# Altium footprint library eyes_hvac_v1_pcb.PcbLib: 21 footprints (part 1 of 2)
Each footprint in its own frame and in the unit in brackets; x right, y up, seen from the top. Pads: shape width x height; smd on the part's side, far side on the other; paste and mask are expansions set on the pad; w line width, h text height; cw(c..) or ccw(c..) is an arc to the next point about the centre after c.
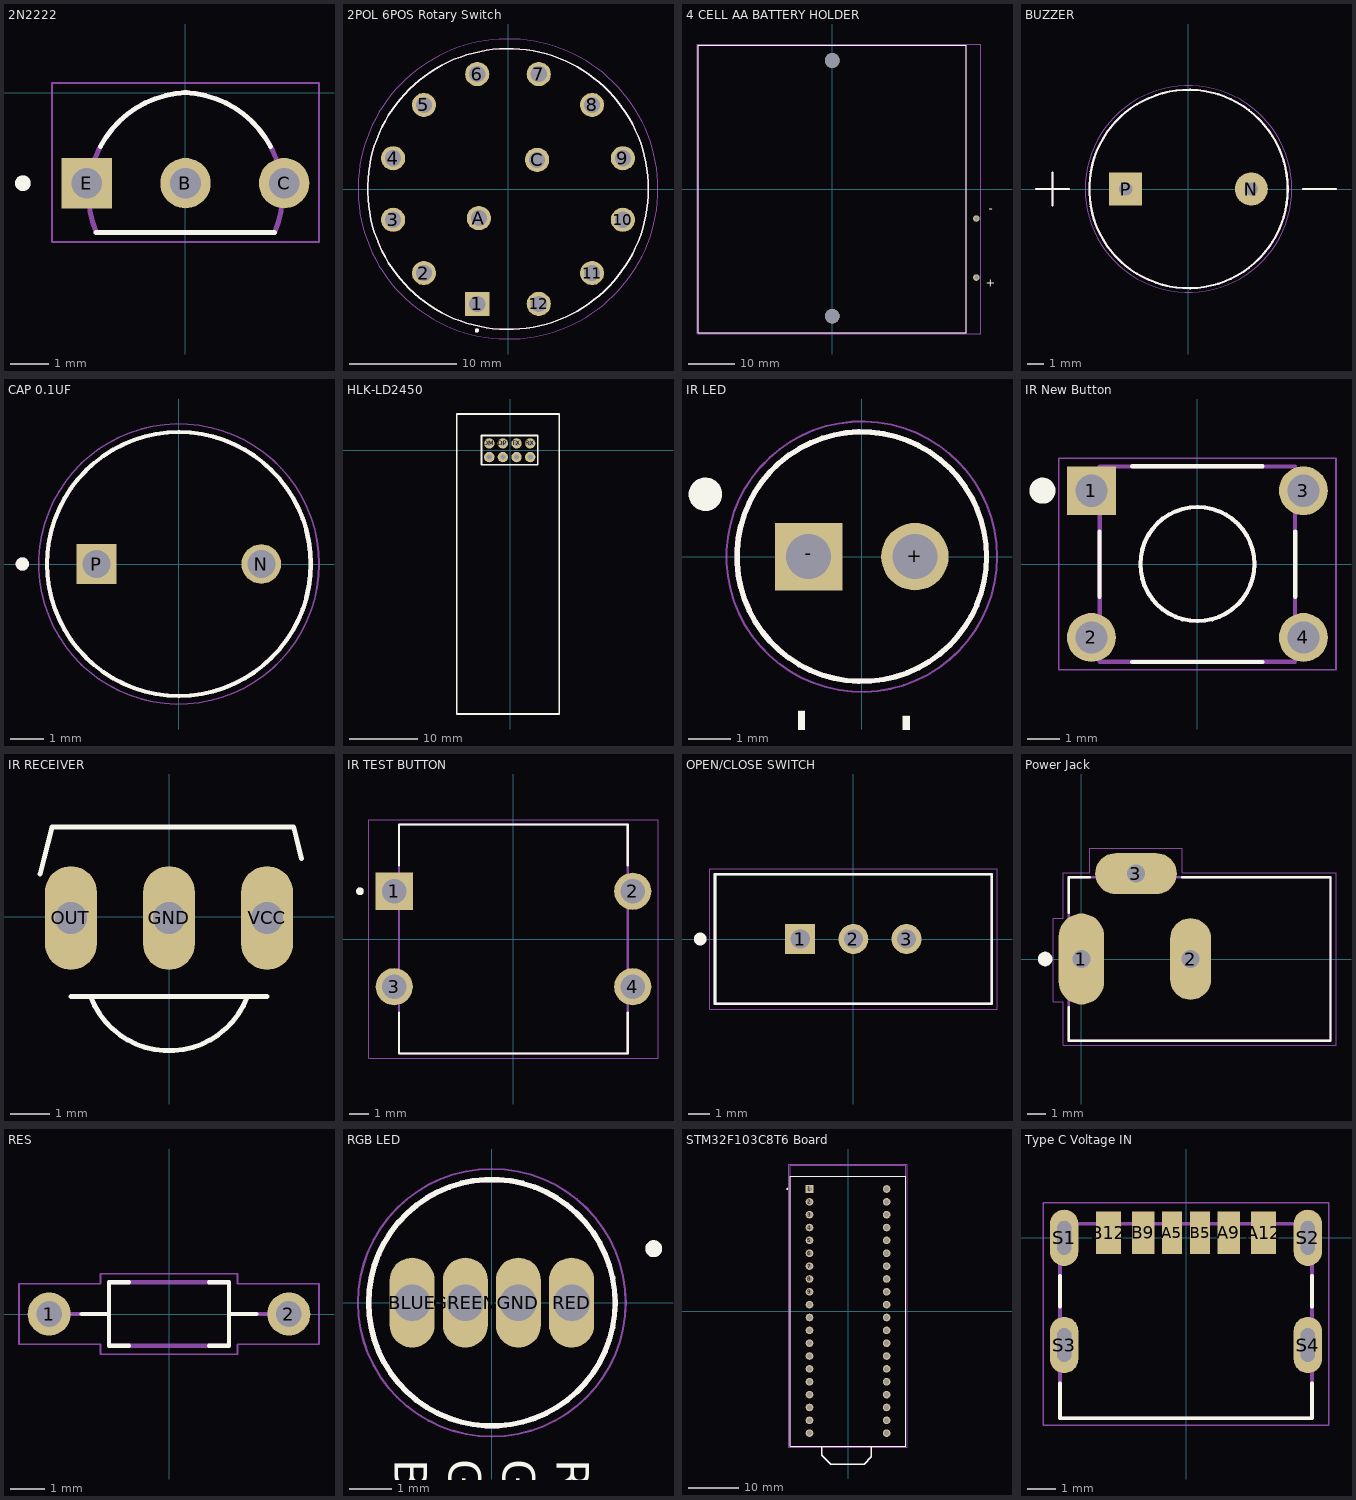
[diagram p0: the footprints below, top view; thin cyan lines are the x and y axes]

## 2N2222 [mm]
height 7.5
pads (3):
  round 1.298 hole 0.79: B(0,-2.33) C(2.54,-2.33)
  rect 1.298x1.298 / inner round 1.298 / far side rect 1.298x1.298 hole 0.79: E(-2.54,-2.33)
Top Overlay:
  circle w0.2: c-4.189,-2.33 r0.1
  lines w0.127: -2.3,-3.6 2.3,-3.6 ; -2.19,-1.381 cw(c0.112,-2.605) 0.021,0.001 ; -0.021,0.001 cw(c-0.112,-2.605) 2.19,-1.381
Mechanical 13:
  circle w0.2: c-4.189,-2.33 r0.1
  lines w0.127: -2.307,-3.582 cw(c0.11,-2.605) 0.019,0.001 ; -2.3,-3.6 2.3,-3.6 ; -0.019,0.001 cw(c-0.11,-2.605) 2.307,-3.582
Mechanical 15:
  lines w0.05: -3.439,-3.85 3.439,-3.85 3.439,0.252 -3.439,0.252 -3.439,-3.85
3D body "step_temp.STEP": height 7.76, standoff -9.5, extent -2.74,-3.869 2.74,0.621

## 2POL 6POS Rotary Switch [mm]
height 52.5
pads (14):
  rect 2.25x2.25 hole 1.5: 1(-2.873,-10.722)
  round 2.25 hole 1.5: 2(-7.849,-7.849) 3(-10.722,-2.873) 4(-10.722,2.873) 5(-7.849,7.849) 6(-2.873,10.722) 7(2.873,10.722) 8(7.849,7.849) 9(10.722,2.873) 10(10.722,-2.873) 11(7.849,-7.849) 12(2.873,-10.722) A(-2.722,-2.722) C(2.722,2.722)
Top Overlay:
  circle w0.2: c-2.9,-13.2 r0.1
  circle w0.127: c0,0 r13.1
Mechanical 13:
  circle w0.2: c-2.9,-13.2 r0.1
  circle w0.127: c0,0 r13.1
Mechanical 15:
  circle w0.05: c0,0 r14
3D body "2T 6P Rotary Switch.STEP": height 51.77, standoff -3.83, extent -13.033,-12.994 12.954,12.994

## 4 CELL AA BATTERY HOLDER [mm]
pads (4):
  round 1.398 hole 0.89: NEG(31,-6.35) POS(31,-19.05)
  round 3.15 hole 3.15 unplated: ""(0,-27.35) ""(0,27.65)
Top Overlay:
  lines w0.127: -28.85,-30.9 28.85,-30.9 28.85,30.9 -28.85,30.9 -28.85,-30.9
  text "+" at 33.025,-20.99 h1.78
  text "-" at 33.66,-5.045 h1.78
Mechanical 13:
  lines w0.127: -28.85,-30.9 -28.85,30.9 28.85,30.9 28.85,-30.9 -28.85,-30.9
  text "-" at 33.66,-5.045 h1.78
  text "+" at 33.025,-20.99 h1.78
Mechanical 15:
  lines w0.05: -29.1,-31.15 31.95,-31.15 31.95,31.15 -29.1,31.15 -29.1,-31.15
3D body "BC4AAB--3DModel-STEP-1.STEP": height 15.5, standoff 0, extent -28.4,-30.522 28.4,30.778

## BUZZER [mm]
height 9.7
pads (2):
  round 2 hole 0.8: N(3.8,0)
  rect 2x2 / inner round 2 / far side rect 2x2 hole 0.8: P(-3.8,0)
Top Overlay:
  circle w0.127: c0,0 r6
  lines w0.127: -9.22,0 -7.22,0 ; -8.22,-1 -8.22,1 ; 6.92,0 8.92,0
Mechanical 13:
  circle w0.127: c0,0 r6
  lines w0.127: -9.22,0 -7.22,0 ; -8.22,-1 -8.22,1 ; 6.92,0 8.92,0
Mechanical 15:
  circle w0.05: c0,0 r6.25
3D body "buzzer.stp": height 9.5, standoff -5.5, extent -6,-5.999 5.997,6

## CAP 0.1UF [mm]
pads (2):
  round 1.2 hole 0.85: N(2.5,0)
  rect 1.2x1.2 hole 0.85: P(-2.5,0)
Top Overlay:
  circle w0.2: c-4.75,0 r0.1
  circle w0.127: c0,0 r4
Mechanical 13:
  circle w0.2: c-4.75,0 r0.1
  circle w0.127: c0,0 r4
Mechanical 15:
  circle w0.05: c0,0 r4.25
3D body "step_temp.STEP": height 11.5, standoff -17, extent -4,-4 4,4

## HLK-LD2450 [mil]
pads (8):
  round 60 hole 30: +3.3V(37.48,-40) +5V(116.22,-40) DM(-120,38.74) DP(-41.26,38.74) GND(-120,-40) PA9(-41.26,-40) RX(116.22,38.74) TX(37.48,38.74)
Top Overlay:
  lines w10: -307.09,-1523.62 283.46,-1523.62 283.46,208.66 -307.09,208.66 -307.09,-1523.62 ; -165,-85 -165,85 160,85 160,-85 -165,-85
3D body "HLK-LD2450-3D.step": height 341.34, standoff 101.16, extent -301.26,-1519.69 289.29,212.6
3D body "8 pin 2 Row 2mm Female Pin Header.stp": height 250, standoff -90, extent -163.33,-78.74 163.33,78.76

## IR LED [mm]
pads (2):
  round 1.61 hole 1.07: +(1.27,0)
  rect 1.61x1.61 hole 1.07: -(-1.27,0)
Top Overlay:
  circle w0.127: c0,0 r2.98
  circle w0.4: c-3.734,1.488 r0.2
  text "-" at -2.006,-3.581 h1.52
  text "+" at 0.406,-3.581 h1.52
Mechanical 13:
  circle w0.127: c0,0 r2.98
Mechanical 15:
  circle w0.05: c0,0 r3.23
3D body "L-53GD--3DModel-STEP-510211.STEP": height 9.6, standoff -26, extent -2.513,-2.95 2.921,2.95

## IR New Button [mm]
pads (4):
  rect 1.498x1.498 / inner round 1.498 / far side rect 1.498x1.498 hole 0.99: 1(-3.25,2.25)
  round 1.498 hole 0.99: 2(-3.25,-2.25) 3(3.25,2.25) 4(3.25,-2.25)
Top Overlay:
  circle w0.127: c0,0 r1.75
  circle w0.4: c-4.75,2.25 r0.2
  lines w0.127: -3,-1 -3,1 ; -2,-3 2,-3 ; -2,3 2,3 ; 3,-1 3,1
Mechanical 13:
  circle w0.127: c0,0 r1.75
  circle w0.4: c-3.25,2.25 r0.2
  lines w0.127: -2.995,-2.995 -2.995,2.995 2.995,2.995 2.995,-2.995 -2.995,-2.995
Mechanical 15:
  lines w0.05: -4.25,-3.245 4.25,-3.245 4.25,3.25 -4.25,3.25 -4.25,-3.245
3D body "step_temp.STEP": height 9.5, standoff -3.51, extent -3.95,-2.997 3.95,2.997

## IR RECEIVER [mil]
pads (3):
  oval 52x104 hole 32: GND(-0.05,-1.05) OUT(-98.47,-1.05) VCC(98.38,-1.05)
Top Overlay:
  lines w5: -129.21,43.16 -117.5,90 125,90 132.91,58.35 ; -98.47,-79.79 -78.79,-79.79 78.69,-79.79 98.38,-79.79 ; -78.56,-80.4 ccw(c-0.05,-50.26) 78.46,-80.4
3D body "TSOP1838--3DModel-STEP-510211.STEP": height 403.54, standoff -816.93, extent -118.16,-159.91 118.06,59.98

## IR TEST BUTTON [mm]
height 7.36
pads (4):
  rect 1.95x1.95 / inner round 1.95 / far side rect 1.95x1.95 hole 1.3: 1(-6.25,2.5)
  round 1.95 hole 1.3: 2(6.25,2.5) 3(-6.25,-2.5) 4(6.25,-2.5)
Top Overlay:
  circle w0.2: c-8.05,2.5 r0.1
  lines w0.127: -6,-3.87 -6,-6 6,-6 6,-3.87 ; -6,3.87 -6,6 6,6 6,3.87
Mechanical 13:
  circle w0.2: c-8.05,2.5 r0.1
  lines w0.127: -6,-6 6,-6 6,6 -6,6 -6,-6
Mechanical 15:
  lines w0.05: -7.575,-6.25 7.575,-6.25 7.575,6.25 -7.575,6.25 -7.575,-6.25
3D body "12x12mm tact push button.stp": height 7.17, standoff -3.61, extent -7.05,-6 7.05,6

## OPEN/CLOSE SWITCH [mm]
pads (3):
  rect 1.408x1.408 / inner round 1.408 / far side rect 1.408x1.408 hole 0.9: 1(-2.5,0)
  round 1.408 hole 0.9: 2(0,0) 3(2.5,0)
Top Overlay:
  circle w0.3: c-7.2,0 r0.15
  lines w0.127: -6.5,-3.05 6.5,-3.05 6.5,3.05 -6.5,3.05 -6.5,-3.05
Mechanical 13:
  lines w0.127: -6.5,-3.05 6.5,-3.05 6.5,3.05 -6.5,3.05 -6.5,-3.05
Mechanical 15:
  lines w0.05: -6.75,-3.3 -6.75,3.3 6.75,3.3 6.75,-3.3 -6.75,-3.3
3D body "1825159-1.stp": height 8.89, standoff -3.11, extent -6.5,-3.05 6.5,3.05

## Power Jack [mm]
pads (3):
  oval 2.5x5 hole 1 square: 1(0,0)
  oval 2.25x4.5 hole 1 square: 2(6,0)
  oval 4.5x2.25 hole 1 square: 3(3,4.7)
Top Overlay:
  circle w0.4: c-2,0 r0.2
  lines w0.127: -0.7,-2.65 -0.7,-4.5 13.7,-4.5 13.7,4.5 5.55,4.5 ; -0.7,2.55 -0.7,4.5 0.45,4.5
Mechanical 13:
  lines w0.127: -0.7,-4.5 13.7,-4.5 13.7,4.5 -0.7,4.5 -0.7,-4.5
Mechanical 15:
  lines w0.05: -1.55,-2.35 -1.55,2.25 -1,2.25 -1,4.75 0.45,4.75 0.45,6.1 5.55,6.1 5.55,4.75 14,4.75 14,-4.75 -1,-4.75 -1,-2.35 -1.55,-2.35
3D body "step_temp.STEP": height 11, standoff -3.5, extent -0.7,-4.5 13.7,4.9

## RES [mm]
pads (2):
  round 1.258 hole 0.75: 1(-3.5,0) 2(3.5,0)
Top Overlay:
  lines w0.127: -2.55,0 -1.75,0 ; -1.17,-0.925 -1.75,-0.925 -1.75,0 ; -1.17,0.925 -1.75,0.925 -1.75,0 ; 1.17,-0.925 1.75,-0.925 1.75,0 ; 1.17,0.925 1.75,0.925 1.75,0 ; 2.55,0 1.75,0
Mechanical 13:
  lines w0.127: -2.925,0 -1.75,0 ; 2.925,0 1.75,0 ; -1.75,0 -1.75,0.925 1.75,0.925 1.75,0 ; -1.75,0 -1.75,-0.925 1.75,-0.925 1.75,0
Mechanical 15:
  lines w0.05: -4.38,-0.88 -4.38,0.88 -2,0.88 -2,1.175 2,1.175 2,0.88 4.38,0.88 4.38,-0.88 2,-0.88 2,-1.175 -2,-1.175 -2,-0.88 -4.38,-0.88
3D body "step_temp.STEP": height 1.85, standoff -23.57, extent -3.725,-0.925 3.725,0.925

## RGB LED [mm]
height 8.7
pads (4):
  oval 1.06x2.12 hole 0.86: BLUE(-1.875,0) GND(0.625,0) GREEN(-0.625,0) RED(1.875,0)
Top Overlay:
  circle w0.2: c3.81,1.27 r0.1
  circle w0.127: c0,0 r2.9
  text "RED" at 1.524,-3.683 h0.76
  text "GND" at 0.254,-3.683 h0.76
  text "GREEN" at -1.016,-3.683 h0.76
  text "BLUE" at -2.286,-3.683 h0.76
Mechanical 13:
  circle w0.127: c0,0 r2.9
  circle w0.2: c3.81,1.27 r0.1
Mechanical 15:
  circle w0.05: c0,0 r3.15
3D body "step_temp.STEP": height 8.7, standoff -27.3, extent -2.9,-2.9 2.5,2.9

## STM32F103C8T6 Board [mm]
pads (40):
  rect 1.508x1.508 hole 1: 1(-7.62,24.13)
  round 1.508 hole 1: 2(-7.62,21.59) 3(-7.62,19.05) 4(-7.62,16.51) 5(-7.62,13.97) 6(-7.62,11.43) 7(-7.62,8.89) 8(-7.62,6.35) 9(-7.62,3.81) 10(-7.62,1.27) 11(-7.62,-1.27) 12(-7.62,-3.81) 13(-7.62,-6.35) 14(-7.62,-8.89) 15(-7.62,-11.43) 16(-7.62,-13.97) 17(-7.62,-16.51) 18(-7.62,-19.05) 19(-7.62,-21.59) 20(-7.62,-24.13) 21(7.62,-24.13) 22(7.62,-21.59) 23(7.62,-19.05) 24(7.62,-16.51) 25(7.62,-13.97) 26(7.62,-11.43) 27(7.62,-8.89) 28(7.62,-6.35) 29(7.62,-3.81) 30(7.62,-1.27) 31(7.62,1.27) 32(7.62,3.81) 33(7.62,6.35) 34(7.62,8.89) 35(7.62,11.43) 36(7.62,13.97) 37(7.62,16.51) 38(7.62,19.05) 39(7.62,21.59) 40(7.62,24.13)
Top Overlay:
  circle w0.2: c-12,24.13 r0.1
  lines w0.127: -11.43,-26.67 11.43,-26.67 11.43,26.67 -11.43,26.67 -11.43,-26.67
  lines w0.254: -5.207,-26.67 -5.207,-28.448 -3.429,-30.226 3.175,-30.226 4.572,-28.829 4.572,-26.67
Mechanical 13:
  circle w0.2: c-12,24.13 r0.1
  lines w0.127: -11.43,26.67 -11.43,-26.67 11.43,-26.67 11.43,26.67 ; -11.43,26.67 -11.43,28.82 11.43,28.82 11.43,26.67 ; -11.43,26.67 11.43,26.67
Mechanical 15:
  lines w0.05: -11.68,-26.92 11.68,-26.92 11.68,29.07 -11.68,29.07 -11.68,-26.92
3D body "20 pin 1 Row 2.54mm Female Pin Header.STEP": height 6.35, standoff -3.56, extent -9.398,-25.4 -5.842,25.4
3D body "20 pin 1 Row 2.54mm Female Pin Header.STEP": height 6.35, standoff -3.56, extent 5.842,-25.4 9.398,25.4
3D body "stm32f103c8t6-board.SLDPRT": height 15.45, standoff -1.55, extent -11.443,-27.559 11.557,30.241

## Type C Voltage IN [mm]
pads (10):
  rect 0.7x1.5 smd: A5(-0.5,0.18) B5(0.5,0.18)
  rect 0.8x1.5 smd: A9(1.52,0.18) B9(-1.52,0.18)
  rect 0.9x1.5 smd: A12(2.75,0.18) B12(-2.75,0.18)
  oval 1x2 hole 0.5 slot 1.2 at 90 deg: S1(-4.32,0) S2(4.32,0) S3(-4.32,-3.8) S4(4.32,-3.8)
Top Overlay:
  lines w0.127: -4.47,-5.15 -4.47,-6.4 4.47,-6.4 4.47,-5.15 ; -4.47,-2.45 -4.47,-1.35 ; 4.47,-2.45 4.47,-1.35
Mechanical 13:
  lines w0.127: -4.47,-6.4 4.47,-6.4 4.47,0.5 -4.47,0.5 -4.47,-6.4
Mechanical 15:
  lines w0.05: -5.07,-6.65 5.07,-6.65 5.07,1.25 -5.07,1.25 -5.07,-6.65
3D body "Type C Voltage IN.STEP": height 3.26, standoff -1, extent -4.47,-6.4 4.47,0.5